# Altium schematic symbol library Schlib1.SchLib: 9 symbols
Pins are listed as number, name and electrical type; pins without a type are passive.

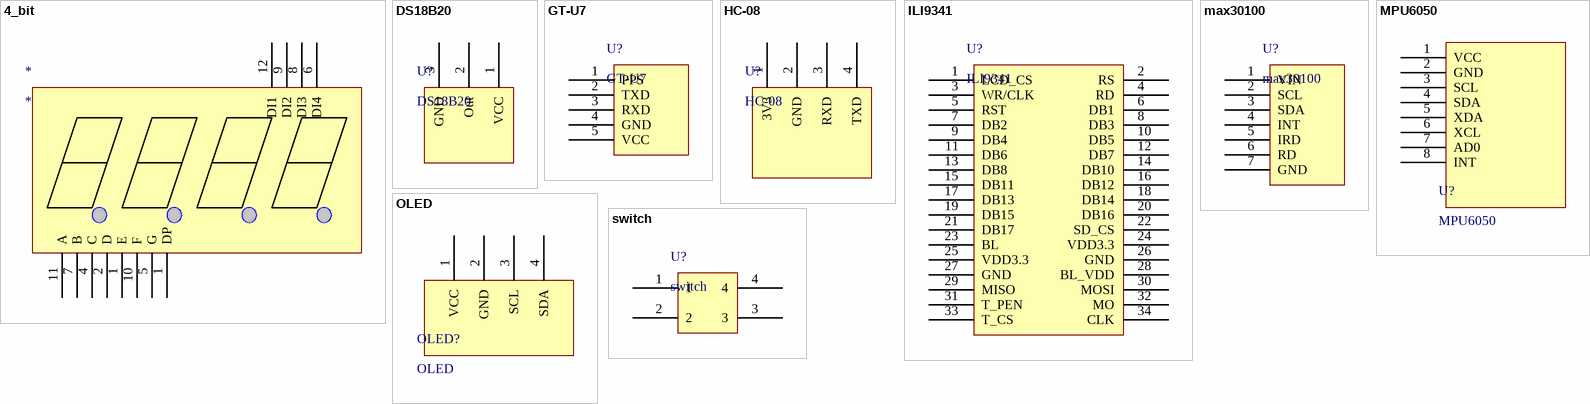
[diagram p0: symbols 4_bit to switch]

## 4_bit
designator *
pins: 1 E, 1 DP, 2 D, 4 C, 5 G, 6 DI4, 7 B, 8 DI3, 9 DI2, 10 F, 11 A, 12 DI1

## DS18B20
designator U?
footprint DS18B20
pins: 1 VCC, 2 Out, 3 GND

## GT-U7
designator U?
footprint GT-U7
pins: 1 PPS, 2 TXD, 3 RXD, 4 GND, 5 VCC

## HC-08
designator U?
footprint HC-08
pins: 1 3V3, 2 GND, 3 RXD, 4 TXD

## ILI9341
designator U?
footprint ILI9341
pins: 1 LCD_CS, 2 RS, 3 WR/CLK, 4 RD, 5 RST, 6 DB1, 7 DB2, 8 DB3, 9 DB4, 10 DB5, 11 DB6, 12 DB7, 13 DB8, 14 DB10, 15 DB11, 16 DB12, 17 DB13, 18 DB14, 19 DB15, 20 DB16, 21 DB17, 22 SD_CS, 23 BL, 24 VDD3.3, 25 VDD3.3, 26 GND, 27 GND, 28 BL_VDD, 29 MISO, 30 MOSI, 31 T_PEN, 32 MO, 33 T_CS, 34 CLK

## max30100
designator U?
footprint max30100
pins: 1 VIN, 2 SCL, 3 SDA, 4 INT, 5 IRD, 6 RD, 7 GND

## MPU6050
designator U?
footprint MPU6050
pins: 1 VCC, 2 GND, 3 SCL, 4 SDA, 5 XDA, 6 XCL, 7 AD0, 8 INT

## OLED
designator OLED?
footprint OLED
pins: 1 VCC, 2 GND, 3 SCL, 4 SDA

## switch
designator U?
footprint switch
pins: 1, 2, 3, 4